# EAGLE library part ATMEGA48 (library NU STEM)
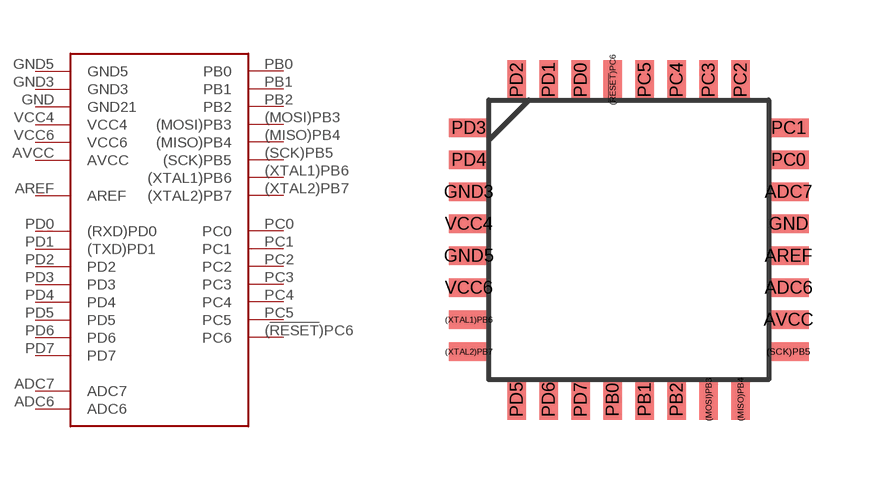
[diagram p0: symbol with the pads of TQFP-32; footprint TQFP-32]

Designator prefix -

## ATMEGA48  [TQFP-32]
(!RESET!)PC6  PC6
(MISO)PB4  (MISO)PB4
(MOSI)PB3  (MOSI)PB3
(SCK)PB5  (SCK)PB5
(XTAL1)PB6  (XTAL1)PB6
(XTAL2)PB7  (XTAL2)PB7
ADC6  ADC6
ADC7  ADC7
AREF  AREF
AVCC  AVCC
GND  GND21
GND3  GND3
GND5  GND5
PB0  PB0
PB1  PB1
PB2  PB2
PC0  PC0
PC1  PC1
PC2  PC2
PC3  PC3
PC4  PC4
PC5  PC5
PD0  (RXD)PD0
PD1  (TXD)PD1
PD2  PD2
PD3  PD3
PD4  PD4
PD5  PD5
PD6  PD6
PD7  PD7
VCC4  VCC4
VCC6  VCC6

## Footprint TQFP-32 (pad centres in mm)
smd 0.46 x 1: (!RESET!)PC6 -0.4,4; (MISO)PB4 2.8,-4; (MOSI)PB3 2,-4; PB0 -0.4,-4; PB1 0.4,-4; PB2 1.2,-4; PC2 2.8,4; PC3 2,4; PC4 1.2,4; PC5 0.4,4; PD0 -1.2,4; PD1 -2,4; PD2 -2.8,4; PD5 -2.8,-4; PD6 -2,-4; PD7 -1.2,-4
smd 1 x 0.46: (SCK)PB5 4,-2.8; (XTAL1)PB6 -4,-2; (XTAL2)PB7 -4,-2.8; ADC6 4,-1.2; ADC7 4,1.2; AREF 4,-0.4; AVCC 4,-2; GND 4,0.4; GND3 -4,1.2; GND5 -4,-0.4; PC0 4,2; PC1 4,2.8; PD3 -4,2.8; PD4 -4,2; VCC4 -4,0.4; VCC6 -4,-1.2